# Altium footprint library Конденсаторы-mm.PcbLib: 128 footprints (part 5 of 8)
Each footprint in its own frame and in the unit in brackets; x right, y up, seen from the top. Pads: shape width x height; smd on the part's side, far side on the other; paste and mask are expansions set on the pad; w line width, h text height; cw(c..) or ccw(c..) is an arc to the next point about the centre after c.
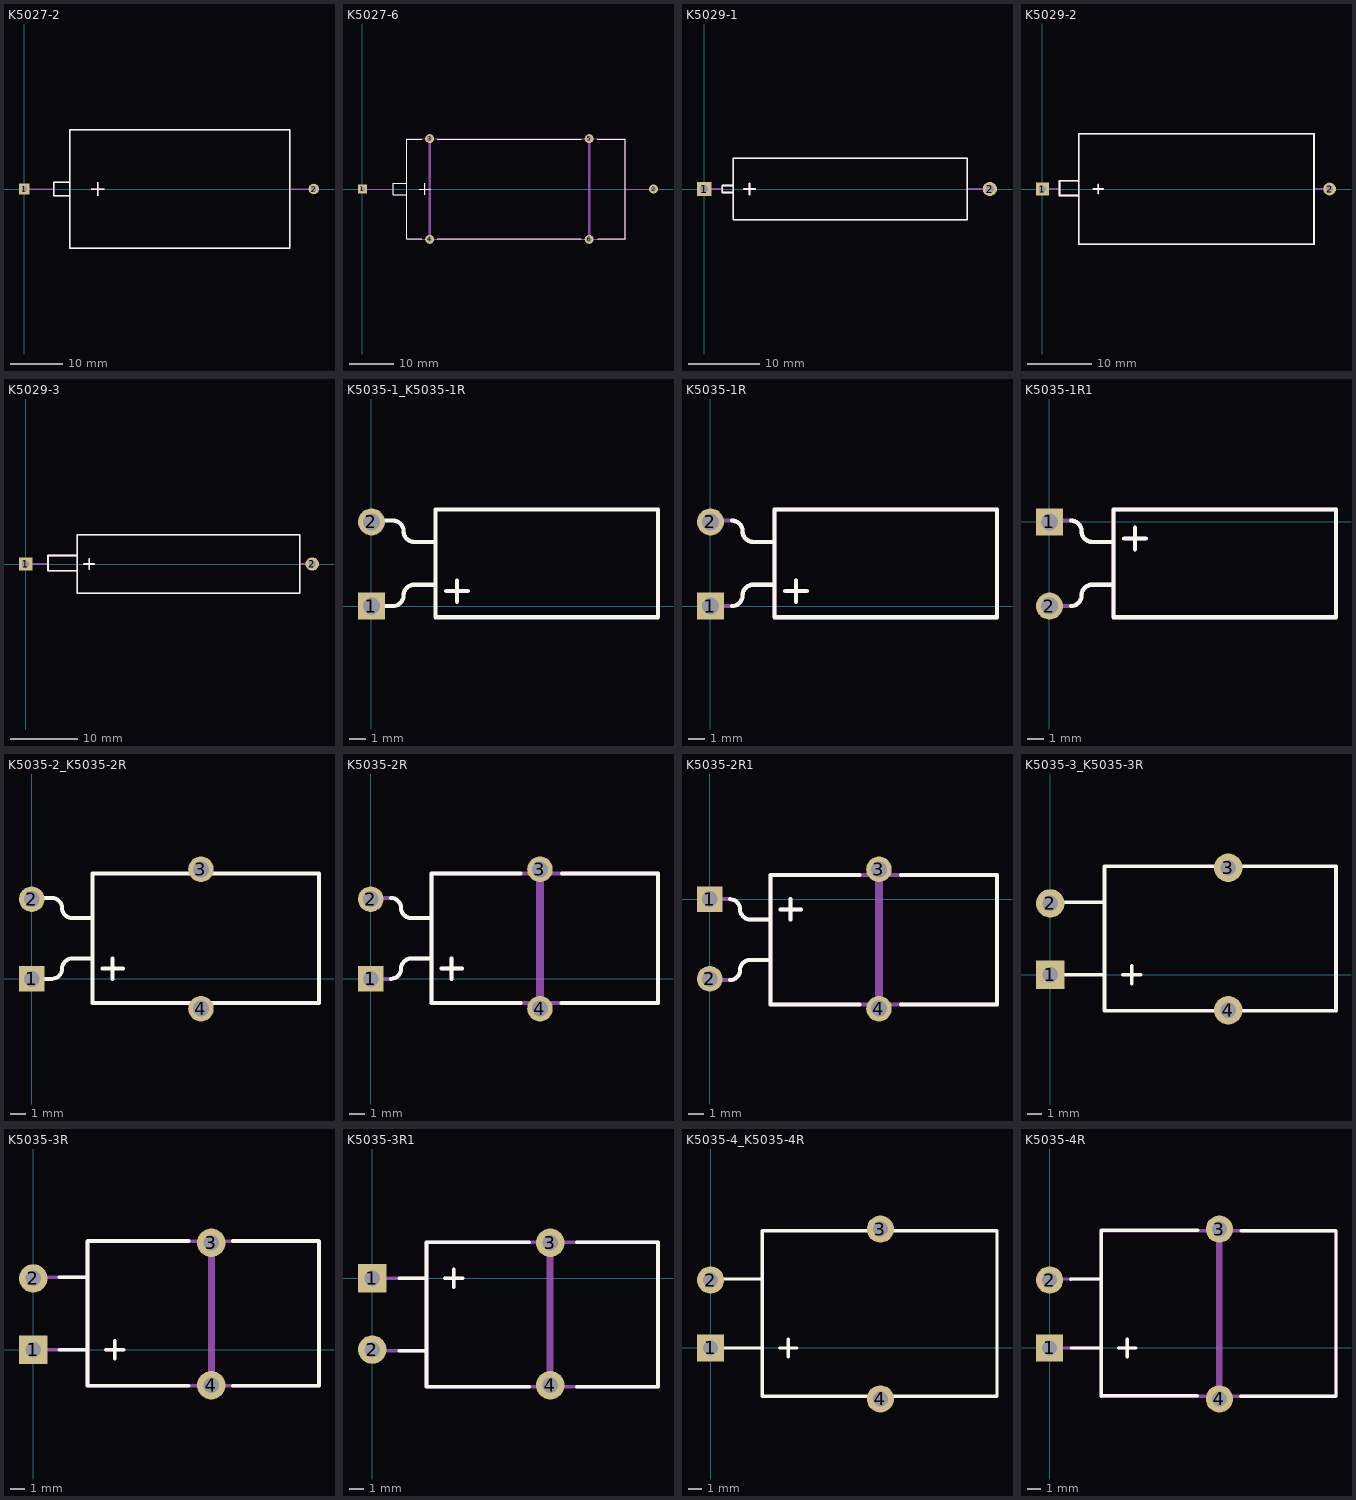
[diagram p4: the footprints below, top view; thin cyan lines are the x and y axes]

## K5027-2 [mm]
pads (2):
  rect 2x2 hole 1.1: 1(0,0)
  round 2 hole 1.1: 2(55,0)
Top Overlay:
  lines w0.25: 8.636,-1.27 5.588,-1.27 5.588,1.27 8.636,1.27 ; 12.7,0 15.24,0 ; 13.97,-1.27 13.97,1.27 ; 8.636,-11.303 50.419,-11.303 50.419,11.303 8.636,11.303 8.636,-11.303
Mechanical 1:
  lines w0.25: 0,0 5.588,0 ; 8.636,-1.27 5.588,-1.27 5.588,1.27 8.636,1.27 ; 12.7,0 15.24,0 ; 13.97,-1.27 13.97,1.27 ; 50.546,0 54.6,0 ; 8.636,-11.303 50.419,-11.303 50.419,11.303 8.636,11.303 8.636,-11.303

## K5027-6 [mm]
pads (6):
  rect 2x2 hole 1.1: 1(0,0)
  round 2 hole 1.1: 2(65,0) 3(15,11.25) 4(15,-11.25) 5(50.625,11.25) 6(50.625,-11.25)
Top Overlay:
  lines w0.25: 9.895,-1.25 6.895,-1.25 6.895,1.125 6.895,1.25 9.895,1.25 ; 12.645,0 15.145,0 ; 13.27,-11.125 9.895,-11.125 9.895,10.625 9.895,11.125 13.27,11.125 ; 13.895,-1.25 13.895,1.25 ; 16.645,-11.125 48.895,-11.125 ; 16.645,11.125 48.895,11.125 ; 52.395,11.125 58.645,11.125 58.645,7.25 58.645,-11.125 52.52,-11.125
Mechanical 1:
  lines w0.25: 0,0 6.858,0 ; 9.906,-1.27 6.858,-1.27 6.858,1.27 9.906,1.27 ; 12.7,0 15.24,0 ; 13.97,-1.27 13.97,1.27 ; 58.674,0 64.63,0 ; 9.906,-11.176 58.674,-11.176 58.674,11.176 9.906,11.176 9.906,-11.176
  lines w0.5: 15.02,-11.125 15.02,11.25 ; 50.645,-11.125 50.645,11.125

## K5029-1 [mm]
pads (2):
  rect 2x2 hole 1.1: 1(0,0)
  round 2 hole 1.1: 2(40,0)
Top Overlay:
  lines w0.25: 4.064,-0.508 2.54,-0.508 2.54,0.508 4.064,0.508 ; 5.588,0 7.112,0 ; 6.35,-0.762 6.35,0.762 ; 4.064,-4.318 36.83,-4.318 36.83,-3.175 36.83,4.318 4.064,4.318 4.064,-3.175 4.064,-4.318
Mechanical 1:
  lines w0.25: 0,0 2.54,0 ; 4.064,-0.508 2.54,-0.508 2.54,0.508 4.064,0.508 ; 5.588,0 7.112,0 ; 6.35,-0.762 6.35,0.762 ; 36.83,0 39.39,0 ; 4.064,-4.318 36.83,-4.318 36.83,-3.175 36.83,4.318 4.064,4.318 4.064,-3.175 4.064,-4.318

## K5029-2 [mm]
pads (2):
  rect 2x2 hole 1.1: 1(0,0)
  round 2 hole 1.1: 2(45,0)
Top Overlay:
  lines w0.25: 5.725,-1.016 2.677,-1.016 2.677,1.27 5.725,1.27 ; 8.011,0 9.535,0 ; 8.773,-0.762 8.773,0.762 ; 5.725,-8.636 42.555,-8.636 42.555,8.636 5.725,8.636 5.725,-8.636
Mechanical 1:
  lines w0.25: 0.3,0.01 2.677,0 ; 5.725,-1.016 2.677,-1.016 2.677,1.27 5.725,1.27 ; 8.011,0 9.535,0 ; 8.773,-0.762 8.773,0.762 ; 42.555,0 44.55,0.01 ; 5.725,-8.636 42.555,-8.636 42.555,8.636 5.725,8.636 5.725,-8.636

## K5029-3 [mm]
pads (2):
  rect 2x2 hole 1.1: 1(0,0)
  round 2 hole 1.1: 2(42.5,0)
Top Overlay:
  lines w0.25: 7.62,-1.016 3.302,-1.016 3.302,1.27 7.62,1.27 ; 8.636,0 10.16,0 ; 9.398,-0.762 9.398,0.762 ; 7.62,-4.318 40.64,-4.318 40.64,4.318 7.62,4.318 7.62,-4.318
Mechanical 1:
  lines w0.25: 0,0 3.302,0 ; 7.62,-1.016 3.302,-1.016 3.302,1.27 7.62,1.27 ; 8.636,0 10.16,0 ; 9.398,-0.762 9.398,0.762 ; 40.64,0 42.545,0 ; 7.62,-4.318 40.64,-4.318 40.64,4.318 7.62,4.318 7.62,-4.318

## K5035-1_K5035-1R [mm]
pads (2):
  rect 1.6x1.6 hole 1: 1(0,0)
  round 1.6 hole 1: 2(0,5)
Top Overlay:
  lines w0.25: 0,0 1.27,0 ; 0,5.08 1.27,5.08 ; 1.271,0 ccw(c1.27,0.635) 1.905,0.635 ; 1.271,5.08 cw(c1.27,4.445) 1.905,4.445 ; 1.905,0.636 cw(c2.54,0.635) 2.541,1.27 ; 1.905,4.446 ccw(c2.54,4.445) 2.541,3.81 ; 2.54,1.27 3.81,1.27 ; 2.54,3.81 3.81,3.81 ; 4.445,0.889 5.715,0.889 ; 5.08,0.254 5.08,1.524 ; 3.81,-0.66 17.018,-0.66 17.018,5.74 3.81,5.74 3.81,-0.66

## K5035-1R [mm]
pads (2):
  rect 1.6x1.6 hole 1: 1(0,0)
  round 1.6 hole 1: 2(0,5)
Top Overlay:
  lines w0.25: 1.271,0 ccw(c1.27,0.635) 1.905,0.635 ; 1.271,5.08 cw(c1.27,4.445) 1.905,4.445 ; 1.905,0.636 cw(c2.54,0.635) 2.541,1.27 ; 1.905,4.446 ccw(c2.54,4.445) 2.541,3.81 ; 2.54,1.27 3.81,1.27 ; 2.54,3.81 3.81,3.81 ; 4.445,0.889 5.715,0.889 ; 5.08,0.254 5.08,1.524 ; 3.81,-0.66 17.018,-0.66 17.018,5.74 3.81,5.74 3.81,-0.66
Mechanical 1:
  lines w0.25: 0,0 1.27,0 ; 0,5.08 1.27,5.08 ; 1.271,0 ccw(c1.27,0.635) 1.905,0.635 ; 1.271,5.08 cw(c1.27,4.445) 1.905,4.445 ; 1.905,0.636 cw(c2.54,0.635) 2.541,1.27 ; 1.905,4.446 ccw(c2.54,4.445) 2.541,3.81 ; 2.54,1.27 3.81,1.27 ; 2.54,3.81 3.81,3.81 ; 4.445,0.889 5.715,0.889 ; 5.08,0.254 5.08,1.524 ; 3.81,-0.66 17.018,-0.66 17.018,5.74 3.81,5.74 3.81,-0.66

## K5035-1R1 [mm]
pads (2):
  rect 1.6x1.6 hole 1: 1(0,0)
  round 1.6 hole 1: 2(0,-5)
Top Overlay:
  lines w0.25: 1.271,-5 ccw(c1.27,-4.365) 1.905,-4.365 ; 1.271,0.08 cw(c1.27,-0.555) 1.905,-0.555 ; 1.905,-4.364 cw(c2.54,-4.365) 2.541,-3.73 ; 1.905,-0.554 ccw(c2.54,-0.555) 2.541,-1.19 ; 2.54,-3.73 3.81,-3.73 ; 2.54,-1.19 3.81,-1.19 ; 4.445,-0.986 5.715,-0.986 ; 5.08,-1.621 5.08,-0.351 ; 3.81,-5.66 17.018,-5.66 17.018,0.74 3.81,0.74 3.81,-5.66
Mechanical 1:
  lines w0.25: 0,-5 1.27,-5 ; 0,0.08 1.27,0.08 ; 1.271,-5 ccw(c1.27,-4.365) 1.905,-4.365 ; 1.271,0.08 cw(c1.27,-0.555) 1.905,-0.555 ; 1.905,-4.364 cw(c2.54,-4.365) 2.541,-3.73 ; 1.905,-0.554 ccw(c2.54,-0.555) 2.541,-1.19 ; 2.54,-3.73 3.81,-3.73 ; 2.54,-1.19 3.81,-1.19 ; 4.445,-0.986 5.715,-0.986 ; 5.08,-1.621 5.08,-0.351 ; 3.81,-5.66 17.018,-5.66 17.018,0.74 3.81,0.74 3.81,-5.66

## K5035-2_K5035-2R [mm]
pads (4):
  rect 1.6x1.6 hole 1: 1(0,0)
  round 1.6 hole 1: 2(0,5) 3(10.625,6.875) 4(10.625,-1.875)
Top Overlay:
  lines w0.25: 0,0 1.27,0 ; 0,5.08 1.27,5.08 ; 1.271,0 ccw(c1.27,0.635) 1.905,0.635 ; 1.271,5.08 cw(c1.27,4.445) 1.905,4.445 ; 1.905,0.636 cw(c2.54,0.635) 2.541,1.27 ; 1.905,4.446 ccw(c2.54,4.445) 2.541,3.81 ; 2.54,1.27 3.81,1.27 ; 2.54,3.81 3.81,3.81 ; 4.445,0.635 5.715,0.635 ; 5.08,0 5.08,1.27 ; 3.81,-1.524 18.034,-1.524 18.034,6.604 3.81,6.604 3.81,-1.524

## K5035-2R [mm]
pads (4):
  rect 1.6x1.6 hole 1: 1(0,0)
  round 1.6 hole 1: 2(0,5) 3(10.625,6.875) 4(10.625,-1.875)
Top Overlay:
  lines w0.25: 1.271,0 ccw(c1.27,0.635) 1.905,0.635 ; 1.271,5.08 cw(c1.27,4.445) 1.905,4.445 ; 1.905,0.636 cw(c2.54,0.635) 2.541,1.27 ; 1.905,4.446 ccw(c2.54,4.445) 2.541,3.81 ; 2.54,1.27 3.81,1.27 ; 2.54,3.81 3.81,3.81 ; 3.81,-1.524 3.81,6.604 ; 3.816,-1.509 9.4,-1.509 ; 3.833,6.608 9.417,6.608 ; 4.445,0.635 5.715,0.635 ; 5.08,0 5.08,1.27 ; 11.987,-1.509 18.017,-1.509 ; 12.004,6.608 18.034,6.608 ; 18.034,-1.524 18.034,6.604
Mechanical 1:
  lines w0.25: 0,0 1.27,0 ; 0,5.08 1.27,5.08 ; 1.271,0 ccw(c1.27,0.635) 1.905,0.635 ; 1.271,5.08 cw(c1.27,4.445) 1.905,4.445 ; 1.905,0.636 cw(c2.54,0.635) 2.541,1.27 ; 1.905,4.446 ccw(c2.54,4.445) 2.541,3.81 ; 2.54,1.27 3.81,1.27 ; 2.54,3.81 3.81,3.81 ; 4.445,0.635 5.715,0.635 ; 5.08,0 5.08,1.27 ; 3.81,-1.524 18.034,-1.524 18.034,6.604 3.81,6.604 3.81,-1.524
  lines w0.5: 10.612,-1.866 10.63,-1.866 10.63,6.876

## K5035-2R1 [mm]
pads (4):
  rect 1.6x1.6 hole 1: 1(0,0)
  round 1.6 hole 1: 2(0,-5) 3(10.625,1.875) 4(10.625,-6.875)
Top Overlay:
  lines w0.25: 1.271,-5.08 ccw(c1.27,-4.445) 1.905,-4.445 ; 1.271,0 cw(c1.27,-0.635) 1.905,-0.635 ; 1.905,-4.444 cw(c2.54,-4.445) 2.541,-3.81 ; 1.905,-0.634 ccw(c2.54,-0.635) 2.541,-1.27 ; 2.54,-3.81 3.81,-3.81 ; 2.54,-1.27 3.81,-1.27 ; 3.81,-6.604 3.81,1.524 ; 3.833,-6.598 9.417,-6.598 ; 3.833,1.519 9.417,1.519 ; 4.445,-0.635 5.715,-0.635 ; 5.08,-1.27 5.08,0 ; 12.004,-6.598 18.034,-6.598 ; 12.004,1.519 18.034,1.519 ; 18.034,-6.604 18.034,1.524
Mechanical 1:
  lines w0.25: 0,-5.08 1.27,-5.08 ; 0,0 1.27,0 ; 1.271,-5.08 ccw(c1.27,-4.445) 1.905,-4.445 ; 1.271,0 cw(c1.27,-0.635) 1.905,-0.635 ; 1.905,-4.444 cw(c2.54,-4.445) 2.541,-3.81 ; 1.905,-0.634 ccw(c2.54,-0.635) 2.541,-1.27 ; 2.54,-3.81 3.81,-3.81 ; 2.54,-1.27 3.81,-1.27 ; 4.445,-0.635 5.715,-0.635 ; 5.08,-1.27 5.08,0 ; 3.81,-6.604 18.034,-6.604 18.034,1.524 3.81,1.524 3.81,-6.604
  lines w0.5: 10.63,-6.866 10.63,1.894

## K5035-3_K5035-3R [mm]
pads (4):
  rect 2x2 hole 1.1: 1(0,0)
  round 2 hole 1.1: 2(0,5) 3(12.5,7.5) 4(12.5,-2.5)
Top Overlay:
  lines w0.25: 0,0 3.81,0 ; 0,5.08 3.81,5.08 ; 5.08,0 6.35,0 ; 5.715,-0.635 5.715,0.635 ; 3.81,-2.54 20.066,-2.54 20.066,7.62 3.81,7.62 3.81,-2.54

## K5035-3R [mm]
pads (4):
  rect 2x2 hole 1.1: 1(0,0)
  round 2 hole 1.1: 2(0,5) 3(12.5,7.5) 4(12.5,-2.5)
Top Overlay:
  lines w0.25: 1.825,0.005 3.81,0 ; 1.825,5.08 3.81,5.08 ; 3.81,-2.54 3.81,7.62 ; 3.815,-2.545 10.93,-2.545 ; 3.815,7.625 10.93,7.625 ; 5.08,0 6.35,0 ; 5.715,-0.635 5.715,0.635 ; 14.025,-2.545 20.055,-2.545 ; 14.025,7.625 20.055,7.625 20.055,7.645 ; 20.066,-2.54 20.066,7.62
Mechanical 1:
  lines w0.25: 0,0 3.81,0 ; 0,5.08 3.81,5.08 ; 5.08,0 6.35,0 ; 5.715,-0.635 5.715,0.635 ; 3.81,-2.54 20.066,-2.54 20.066,7.62 3.81,7.62 3.81,-2.54
  lines w0.5: 12.51,-2.485 12.51,7.525

## K5035-3R1 [mm]
pads (4):
  rect 2x2 hole 1.1: 1(0,0)
  round 2 hole 1.1: 2(0,-5) 3(12.5,2.5) 4(12.5,-7.5)
Top Overlay:
  lines w0.25: 1.885,0.005 3.81,0 ; 1.905,-5.085 3.81,-5.08 ; 3.81,-7.62 3.81,2.54 ; 3.815,-7.605 11.01,-7.605 ; 3.815,2.545 11.01,2.545 ; 5.08,0 6.35,0 ; 5.715,-0.635 5.715,0.635 ; 14.38,-7.605 20.055,-7.605 ; 14.38,2.545 20.055,2.545 ; 20.066,-7.62 20.066,2.54
Mechanical 1:
  lines w0.25: 0,-5.08 3.81,-5.08 ; 0,0 3.81,0 ; 5.08,0 6.35,0 ; 5.715,-0.635 5.715,0.635 ; 3.81,-7.62 20.066,-7.62 20.066,2.54 3.81,2.54 3.81,-7.62
  lines w0.5: 12.47,-7.625 12.49,-7.625 12.49,2.625

## K5035-4_K5035-4R [mm]
pads (4):
  rect 2x2 hole 1.1: 1(0,0)
  round 2 hole 1.1: 2(0,5) 3(12.5,8.75) 4(12.5,-3.75)
Top Overlay:
  lines w0.25: 0,0 3.81,0 ; 0,5.08 3.81,5.08 ; 5.08,0 6.35,0 ; 5.715,-0.635 5.715,0.635 ; 3.81,-3.556 21.082,-3.556 21.082,8.636 3.81,8.636 3.81,-3.556

## K5035-4R [mm]
pads (4):
  rect 2x2 hole 1.1: 1(0,0)
  round 2 hole 1.1: 2(0,5) 3(12.5,8.75) 4(12.5,-3.75)
Top Overlay:
  lines w0.25: 1.555,5.07 3.81,5.08 ; 1.6,0 3.81,0 ; 3.795,-3.52 10.89,-3.52 ; 3.8,8.65 10.895,8.65 10.895,8.67 ; 3.81,-3.556 3.81,8.636 ; 5.08,0 6.35,0 ; 5.715,-0.635 5.715,0.635 ; 14.085,-3.545 21.065,-3.545 ; 14.09,8.625 21.07,8.625 ; 21.082,-3.556 21.082,8.636
Mechanical 1:
  lines w0.25: 0,0 3.81,0 ; 0,5.08 3.81,5.08 ; 5.08,0 6.35,0 ; 5.715,-0.635 5.715,0.635 ; 3.81,-3.556 21.082,-3.556 21.082,8.636 3.81,8.636 3.81,-3.556
  lines w0.5: 12.495,-3.69 12.495,8.78